# Altium schematic symbol library Battery_Management.SchLib: 122 symbols (part 2 of 2)
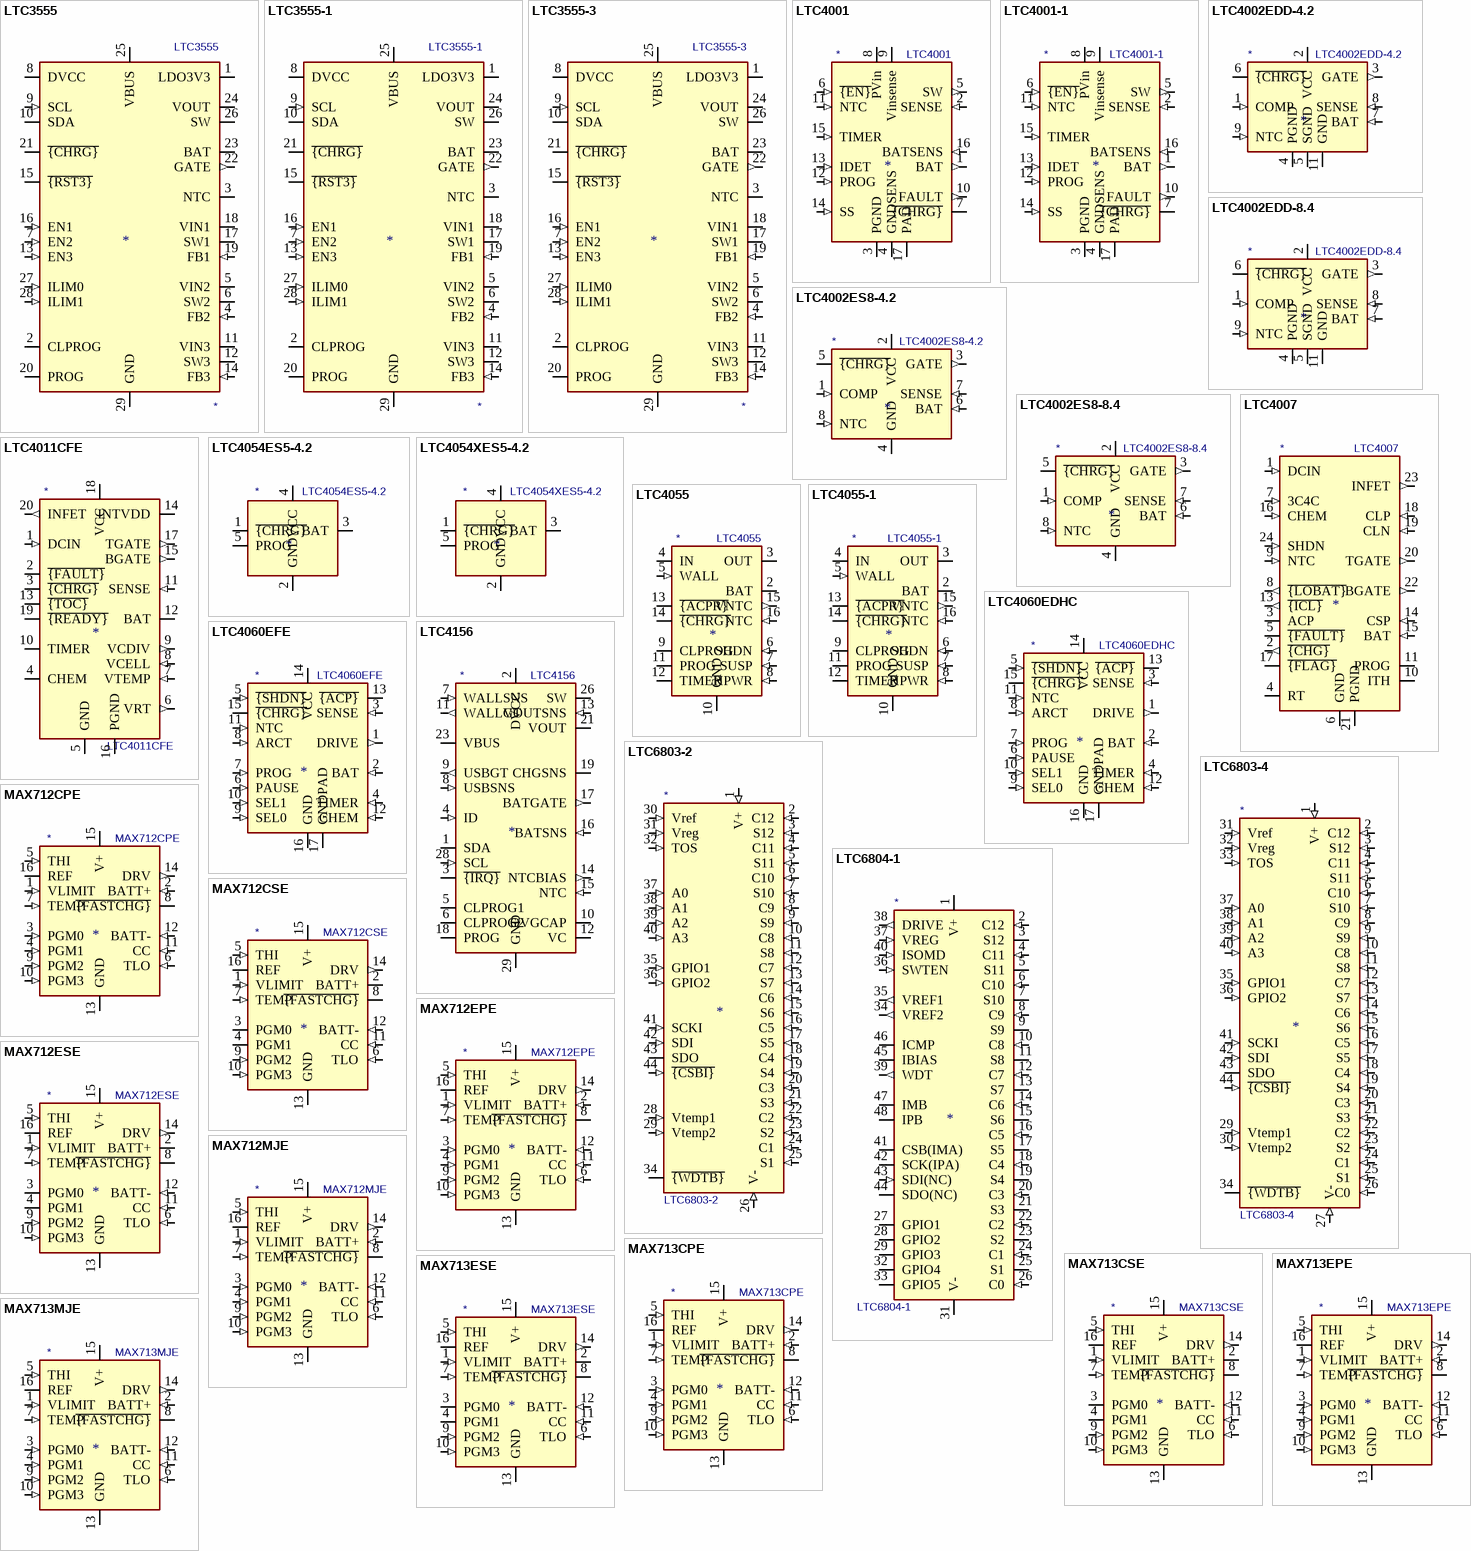
[diagram p5: symbols LTC3555 to MAX713MJE]

## LTC4060EFE
designator *  value LTC4060EFE
ki_keywords: Complete fast charging system for 2, 3 or 4 series NiMH or NiCd batteries, 0.4 to 2A, 4.5 to 10V VDD, -40 to +85 degree Celcisus, TSSOP-16; ki_fp_filters: TSSOP*EP*4.4x5mm*P0.65mm*; Footprint: Package_SO:TSSOP-16-1EP_4.4x5mm_P0.65mm; Supplier: https://www.analog.com/media/en/technical-documentation/data-sheets/405442xf.pdf; ki_description: Complete fast charging system for 2, 3 or 4 series NiMH or NiCd batteries, 0.4 to 2A, 4.5 to 10V VDD, -40 to +85 degree Celcisus, TSSOP-16
footprint TSSOP-16-1EP_4.4x5mm_P0.65mm
pins: 1 DRIVE (out), 2 BAT (in), 3 SENSE (in), 4 TIMER (in), 5 ~{{SHDN}} (in), 6 PAUSE (in), 7 PROG (in), 8 ARCT (in), 9 SEL0 (in), 10 SEL1 (in), 11 NTC (in), 12 CHEM (in), 13 ~{{ACP}} (oc), 14 VCC (power), 15 ~{{CHRG}} (oc), 16 GND (power), 17 GNDPAD (power)

## LTC4156
designator *  value LTC4156
ki_keywords: lifepo charger PMIC USB; ki_description: Dual-Input Power Manager / 3.5A LiFePO4 Battery Charger with I2C Control and USB OTG, QFN-28; ki_fp_filters: QFN*1EP*4x5mm*P0.5mm*; Footprint: Package_DFN_QFN:QFN-28-1EP_4x5mm_P0.5mm_EP2.65x3.65mm; Supplier: https://www.analog.com/media/en/technical-documentation/data-sheets/4156fa.pdf
footprint QFN-28-1EP_4x5mm_P0.5mm_EP2.65x3.65mm
pins: 1 SDA (io), 2 DVCC (power), 3 ~{{IRQ}} (oc), 4 ID (in), 5 CLPROG1, 6 CLPROG2, 7 WALLSNS (in), 8 USBSNS (in), 9 USBGT (out), 10 OVGCAP, 11 WALLGT (out), 12 VC, 13 VOUTSNS (in), 14 NTCBIAS (out), 15 NTC (in), 16 BATSNS (in), 17 BATGATE (out), 18 PROG, 19 CHGSNS, 20 CHGSNS hidden, 21 VOUT, 22 VOUT hidden, 23 VBUS, 24 VBUS hidden, 25 VBUS hidden, 26 SW, 27 SW hidden, 28 SCL (in), 29 GND (power)

## LTC6803-2
designator *  value LTC6803-2
ki_keywords: battery balance afe; ki_description: Multicell Battery Stack Monitor, 12-cell max, multi-chemistry, integrated balancing, stackable, serial interface; ki_fp_filters: SSOP*5.3x12.8mm*P0.5mm*; Footprint: Package_SO:SSOP-44_5.3x12.8mm_P0.5mm; Supplier: https://www.analog.com/media/en/technical-documentation/data-sheets/680324fa.pdf
footprint SSOP-44_5.3x12.8mm_P0.5mm
pins: 1 V+ (in), 2 C12 (in), 3 S12 (in), 4 C11 (in), 5 S11 (in), 6 C10 (in), 7 S10 (in), 8 C9 (in), 9 S9 (in), 10 C8 (in), 11 S8 (in), 12 C7 (in), 13 S7 (in), 14 C6 (in), 15 S6 (in), 16 C5 (in), 17 S5 (in), 18 C4 (in), 19 S4 (in), 20 C3 (in), 21 S3 (in), 22 C2 (in), 23 S2 (in), 24 C1 (in), 25 S1 (in), 26 V- (in), 27 NC (in) hidden, 28 Vtemp1 (in), 29 Vtemp2 (in), 30 Vref (in), 31 Vreg (in), 32 TOS (in), 33 NC (in) hidden, 34 ~{{WDTB}} (oc), 35 GPIO1 (in), 36 GPIO2 (in), 37 A0 (in), 38 A1 (in), 39 A2 (in), 40 A3 (in), 41 SCKI (in), 42 SDI (in), 43 SDO (oc), 44 ~{{CSBI}} (in)

## LTC6803-4
designator *  value LTC6803-4
ki_keywords: battery balance afe; ki_description: Multicell Battery Stack Monitor, 12-cell max, multi-chemistry, integrated balancing, stackable, serial interface; ki_fp_filters: SSOP*5.3x12.8mm*P0.5mm*; Footprint: Package_SO:SSOP-44_5.3x12.8mm_P0.5mm; Supplier: https://www.analog.com/media/en/technical-documentation/data-sheets/680324fa.pdf
footprint SSOP-44_5.3x12.8mm_P0.5mm
pins: 1 V+ (in), 2 C12 (in), 3 S12 (in), 4 C11 (in), 5 S11 (in), 6 C10 (in), 7 S10 (in), 8 C9 (in), 9 S9 (in), 10 C8 (in), 11 S8 (in), 12 C7 (in), 13 S7 (in), 14 C6 (in), 15 S6 (in), 16 C5 (in), 17 S5 (in), 18 C4 (in), 19 S4 (in), 20 C3 (in), 21 S3 (in), 22 C2 (in), 23 S2 (in), 24 C1 (in), 25 S1 (in), 26 C0 (in), 27 V- (in), 28 NC (in) hidden, 29 Vtemp1 (in), 30 Vtemp2 (in), 31 Vref (in), 32 Vreg (in), 33 TOS (in), 34 ~{{WDTB}} (oc), 35 GPIO1 (in), 36 GPIO2 (in), 37 A0 (in), 38 A1 (in), 39 A2 (in), 40 A3 (in), 41 SCKI (in), 42 SDI (in), 43 SDO (oc), 44 ~{{CSBI}} (in)

## LTC6804-1
designator *  value LTC6804-1
ki_keywords: battery balance afe; ki_description: Multicell Battery Stack Monitor, 12-cell max, multi-chemistry, integrated balancing, stackable, serial interface, SSOP-48; ki_fp_filters: SSOP*5.3x12.8mm*P0.5mm*; Footprint: Package_SO:SSOP-48_5.3x12.8mm_P0.5mm; Supplier: https://www.analog.com/media/en/technical-documentation/data-sheets/680412fc.pdf
footprint SSOP-48_5.3x12.8mm_P0.5mm
pins: 1 V+ (power), 2 C12 (in), 3 S12 (io), 4 C11 (in), 5 S11 (io), 6 C10 (in), 7 S10 (io), 8 C9 (in), 9 S9 (io), 10 C8 (in), 11 S8 (io), 12 C7 (in), 13 S7 (io), 14 C6 (in), 15 S6 (io), 16 C5 (in), 17 S5 (io), 18 C4 (in), 19 S4 (io), 20 C3 (in), 21 S3 (io), 22 C2 (in), 23 S2 (io), 24 C1 (in), 25 S1 (io), 26 C0 (in), 27 GPIO1 (io), 28 GPIO2 (io), 29 GPIO3 (io), 30 V- hidden, 31 V-, 32 GPIO4 (io), 33 GPIO5 (io), 34 VREF2 (out), 35 VREF1 (out), 36 SWTEN (in), 37 VREG (in), 38 DRIVE (out), 39 WDT (out), 40 ISOMD (in), 41 CSB(IMA) (io), 42 SCK(IPA) (io), 43 SDI(NC) (in), 44 SDO(NC) (oc), 45 IBIAS, 46 ICMP, 47 IMB (io), 48 IPB (io)

## MAX712CPE
designator *  value MAX712CPE
ki_keywords: Fast-charge Nickel Metal Hydride (NiMH) from a DC source, 0 to +70 Degree Celsius, PDIP-16; ki_fp_filters: DIP*W7.62mm*; Footprint: Package_DIP:DIP-16_W7.62mm; Supplier: https://datasheets.maximintegrated.com/en/ds/MAX712-MAX713.pdf; ki_description: Fast-charge Nickel Metal Hydride (NiMH) from a DC source, 0 to +70 Degree Celsius, PDIP-16
footprint DIP-16_W7.62mm
pins: 1 VLIMIT (in), 2 BATT+ (in), 3 PGM0 (in), 4 PGM1 (in), 5 THI (in), 6 TLO (in), 7 TEMP (in), 8 ~{{FASTCHG}} (oc), 9 PGM2 (in), 10 PGM3 (in), 11 CC (in), 12 BATT- (in), 13 GND (power), 14 DRV (out), 15 V+ (power), 16 REF (power)

## MAX712CSE
designator *  value MAX712CSE
ki_keywords: Fast-charge Nickel Metal Hydride (NiMH) from a DC source, 0 to +70 Degree Celsius, SOIC-16; ki_fp_filters: SOIC*3.9x9.9mm*P1.27mm*; Footprint: Package_SO:SOIC-16_3.9x9.9mm_P1.27mm; Supplier: https://datasheets.maximintegrated.com/en/ds/MAX712-MAX713.pdf; ki_description: Fast-charge Nickel Metal Hydride (NiMH) from a DC source, 0 to +70 Degree Celsius, SOIC-16
footprint SOIC-16_3.9x9.9mm_P1.27mm
pins: 1 VLIMIT (in), 2 BATT+ (power), 3 PGM0 (power), 4 PGM1 (power), 5 THI (in), 6 TLO (in), 7 TEMP (in), 8 ~{{FASTCHG}} (oc), 9 PGM2 (in), 10 PGM3 (in), 11 CC (in), 12 BATT- (in), 13 GND (power), 14 DRV (out), 15 V+ (power), 16 REF (power)

## MAX712EPE
designator *  value MAX712EPE
ki_keywords: Fast-charge Nickel Metal Hydride (NiMH) from a DC source, -40 to +85 Degree Celsius, PDIP-16; ki_fp_filters: DIP*W7.62mm*; Footprint: Package_DIP:DIP-16_W7.62mm; Supplier: https://datasheets.maximintegrated.com/en/ds/MAX712-MAX713.pdf; ki_description: Fast-charge Nickel Metal Hydride (NiMH) from a DC source, -40 to +85 Degree Celsius, PDIP-16
footprint DIP-16_W7.62mm
pins: 1 VLIMIT (in), 2 BATT+ (in), 3 PGM0 (in), 4 PGM1 (in), 5 THI (in), 6 TLO (in), 7 TEMP (in), 8 ~{{FASTCHG}} (oc), 9 PGM2 (in), 10 PGM3 (in), 11 CC (in), 12 BATT- (in), 13 GND (power), 14 DRV (out), 15 V+ (power), 16 REF (power)

## MAX712ESE
designator *  value MAX712ESE
ki_keywords: Fast-charge Nickel Metal Hydride (NiMH) from a DC source, -40 to +85 Degree Celsius, SOIC-16; ki_fp_filters: SOIC*3.9x9.9mm*P1.27mm*; Footprint: Package_SO:SOIC-16_3.9x9.9mm_P1.27mm; Supplier: https://datasheets.maximintegrated.com/en/ds/MAX712-MAX713.pdf; ki_description: Fast-charge Nickel Metal Hydride (NiMH) from a DC source, -40 to +85 Degree Celsius, SOIC-16
footprint SOIC-16_3.9x9.9mm_P1.27mm
pins: 1 VLIMIT (in), 2 BATT+ (power), 3 PGM0 (power), 4 PGM1 (power), 5 THI (in), 6 TLO (in), 7 TEMP (in), 8 ~{{FASTCHG}} (oc), 9 PGM2 (in), 10 PGM3 (in), 11 CC (in), 12 BATT- (in), 13 GND (power), 14 DRV (out), 15 V+ (power), 16 REF (power)

## MAX712MJE
designator *  value MAX712MJE
ki_keywords: Fast-charge Nickel Metal Hydride (NiMH) from a DC source, ceramic, -55 to +125 Degree Celsius, PDIP-16; ki_fp_filters: DIP*W7.62mm*; Footprint: Package_DIP:DIP-16_W7.62mm; Supplier: https://datasheets.maximintegrated.com/en/ds/MAX712-MAX713.pdf; ki_description: Fast-charge Nickel Metal Hydride (NiMH) from a DC source, ceramic, -55 to +125 Degree Celsius, PDIP-16
footprint DIP-16_W7.62mm
pins: 1 VLIMIT (in), 2 BATT+ (in), 3 PGM0 (in), 4 PGM1 (in), 5 THI (in), 6 TLO (in), 7 TEMP (in), 8 ~{{FASTCHG}} (oc), 9 PGM2 (in), 10 PGM3 (in), 11 CC (in), 12 BATT- (in), 13 GND (power), 14 DRV (out), 15 V+ (power), 16 REF (power)

## MAX713CPE
designator *  value MAX713CPE
ki_keywords: Fast-charge Nickel Cadmium (NiCd) from a DC source, 0 to +70 Degree Celsius, PDIP-16; ki_fp_filters: DIP*W7.62mm*; Footprint: Package_DIP:DIP-16_W7.62mm; Supplier: https://datasheets.maximintegrated.com/en/ds/MAX712-MAX713.pdf; ki_description: Fast-charge Nickel Cadmium (NiCd) from a DC source, 0 to +70 Degree Celsius, PDIP-16
footprint DIP-16_W7.62mm
pins: 1 VLIMIT (in), 2 BATT+ (in), 3 PGM0 (in), 4 PGM1 (in), 5 THI (in), 6 TLO (in), 7 TEMP (in), 8 ~{{FASTCHG}} (oc), 9 PGM2 (in), 10 PGM3 (in), 11 CC (in), 12 BATT- (in), 13 GND (power), 14 DRV (out), 15 V+ (power), 16 REF (power)

## MAX713CSE
designator *  value MAX713CSE
ki_keywords: Fast-charge Nickel Cadmium (NiCd) from a DC source, 0 to +70 Degree Celsius, SOIC-16; ki_fp_filters: SOIC*3.9x9.9mm*P1.27mm*; Footprint: Package_SO:SOIC-16_3.9x9.9mm_P1.27mm; Supplier: https://datasheets.maximintegrated.com/en/ds/MAX712-MAX713.pdf; ki_description: Fast-charge Nickel Cadmium (NiCd) from a DC source, 0 to +70 Degree Celsius, SOIC-16
footprint SOIC-16_3.9x9.9mm_P1.27mm
pins: 1 VLIMIT (in), 2 BATT+ (power), 3 PGM0 (power), 4 PGM1 (power), 5 THI (in), 6 TLO (in), 7 TEMP (in), 8 ~{{FASTCHG}} (oc), 9 PGM2 (in), 10 PGM3 (in), 11 CC (in), 12 BATT- (in), 13 GND (power), 14 DRV (out), 15 V+ (power), 16 REF (power)

## MAX713EPE
designator *  value MAX713EPE
ki_keywords: Fast-charge Nickel Cadmium (NiCd) from a DC source, -40 to +85 Degree Celsius, PDIP-16; ki_fp_filters: DIP*W7.62mm*; Footprint: Package_DIP:DIP-16_W7.62mm; Supplier: https://datasheets.maximintegrated.com/en/ds/MAX712-MAX713.pdf; ki_description: Fast-charge Nickel Cadmium (NiCd) from a DC source, -40 to +85 Degree Celsius, PDIP-16
footprint DIP-16_W7.62mm
pins: 1 VLIMIT (in), 2 BATT+ (in), 3 PGM0 (in), 4 PGM1 (in), 5 THI (in), 6 TLO (in), 7 TEMP (in), 8 ~{{FASTCHG}} (oc), 9 PGM2 (in), 10 PGM3 (in), 11 CC (in), 12 BATT- (in), 13 GND (power), 14 DRV (out), 15 V+ (power), 16 REF (power)

## MAX713ESE
designator *  value MAX713ESE
ki_keywords: Fast-charge Nickel Cadmium (NiCd) from a DC source, -40 to +85 Degree Celsius, SOIC-16; ki_fp_filters: SOIC*3.9x9.9mm*P1.27mm*; Footprint: Package_SO:SOIC-16_3.9x9.9mm_P1.27mm; Supplier: https://datasheets.maximintegrated.com/en/ds/MAX712-MAX713.pdf; ki_description: Fast-charge Nickel Cadmium (NiCd) from a DC source, -40 to +85 Degree Celsius, SOIC-16
footprint SOIC-16_3.9x9.9mm_P1.27mm
pins: 1 VLIMIT (in), 2 BATT+ (power), 3 PGM0 (power), 4 PGM1 (power), 5 THI (in), 6 TLO (in), 7 TEMP (in), 8 ~{{FASTCHG}} (oc), 9 PGM2 (in), 10 PGM3 (in), 11 CC (in), 12 BATT- (in), 13 GND (power), 14 DRV (out), 15 V+ (power), 16 REF (power)

## MAX713MJE
designator *  value MAX713MJE
ki_keywords: Fast-charge Nickel Cadmium (NiCd) from a DC source, ceramic, -55 to +125 Degree Celsius, PDIP-16; ki_fp_filters: DIP*W7.62mm*; Footprint: Package_DIP:DIP-16_W7.62mm; Supplier: https://datasheets.maximintegrated.com/en/ds/MAX712-MAX713.pdf; ki_description: Fast-charge Nickel Cadmium (NiCd) from a DC source, ceramic, -55 to +125 Degree Celsius, PDIP-16
footprint DIP-16_W7.62mm
pins: 1 VLIMIT (in), 2 BATT+ (in), 3 PGM0 (in), 4 PGM1 (in), 5 THI (in), 6 TLO (in), 7 TEMP (in), 8 ~{{FASTCHG}} (oc), 9 PGM2 (in), 10 PGM3 (in), 11 CC (in), 12 BATT- (in), 13 GND (power), 14 DRV (out), 15 V+ (power), 16 REF (power)

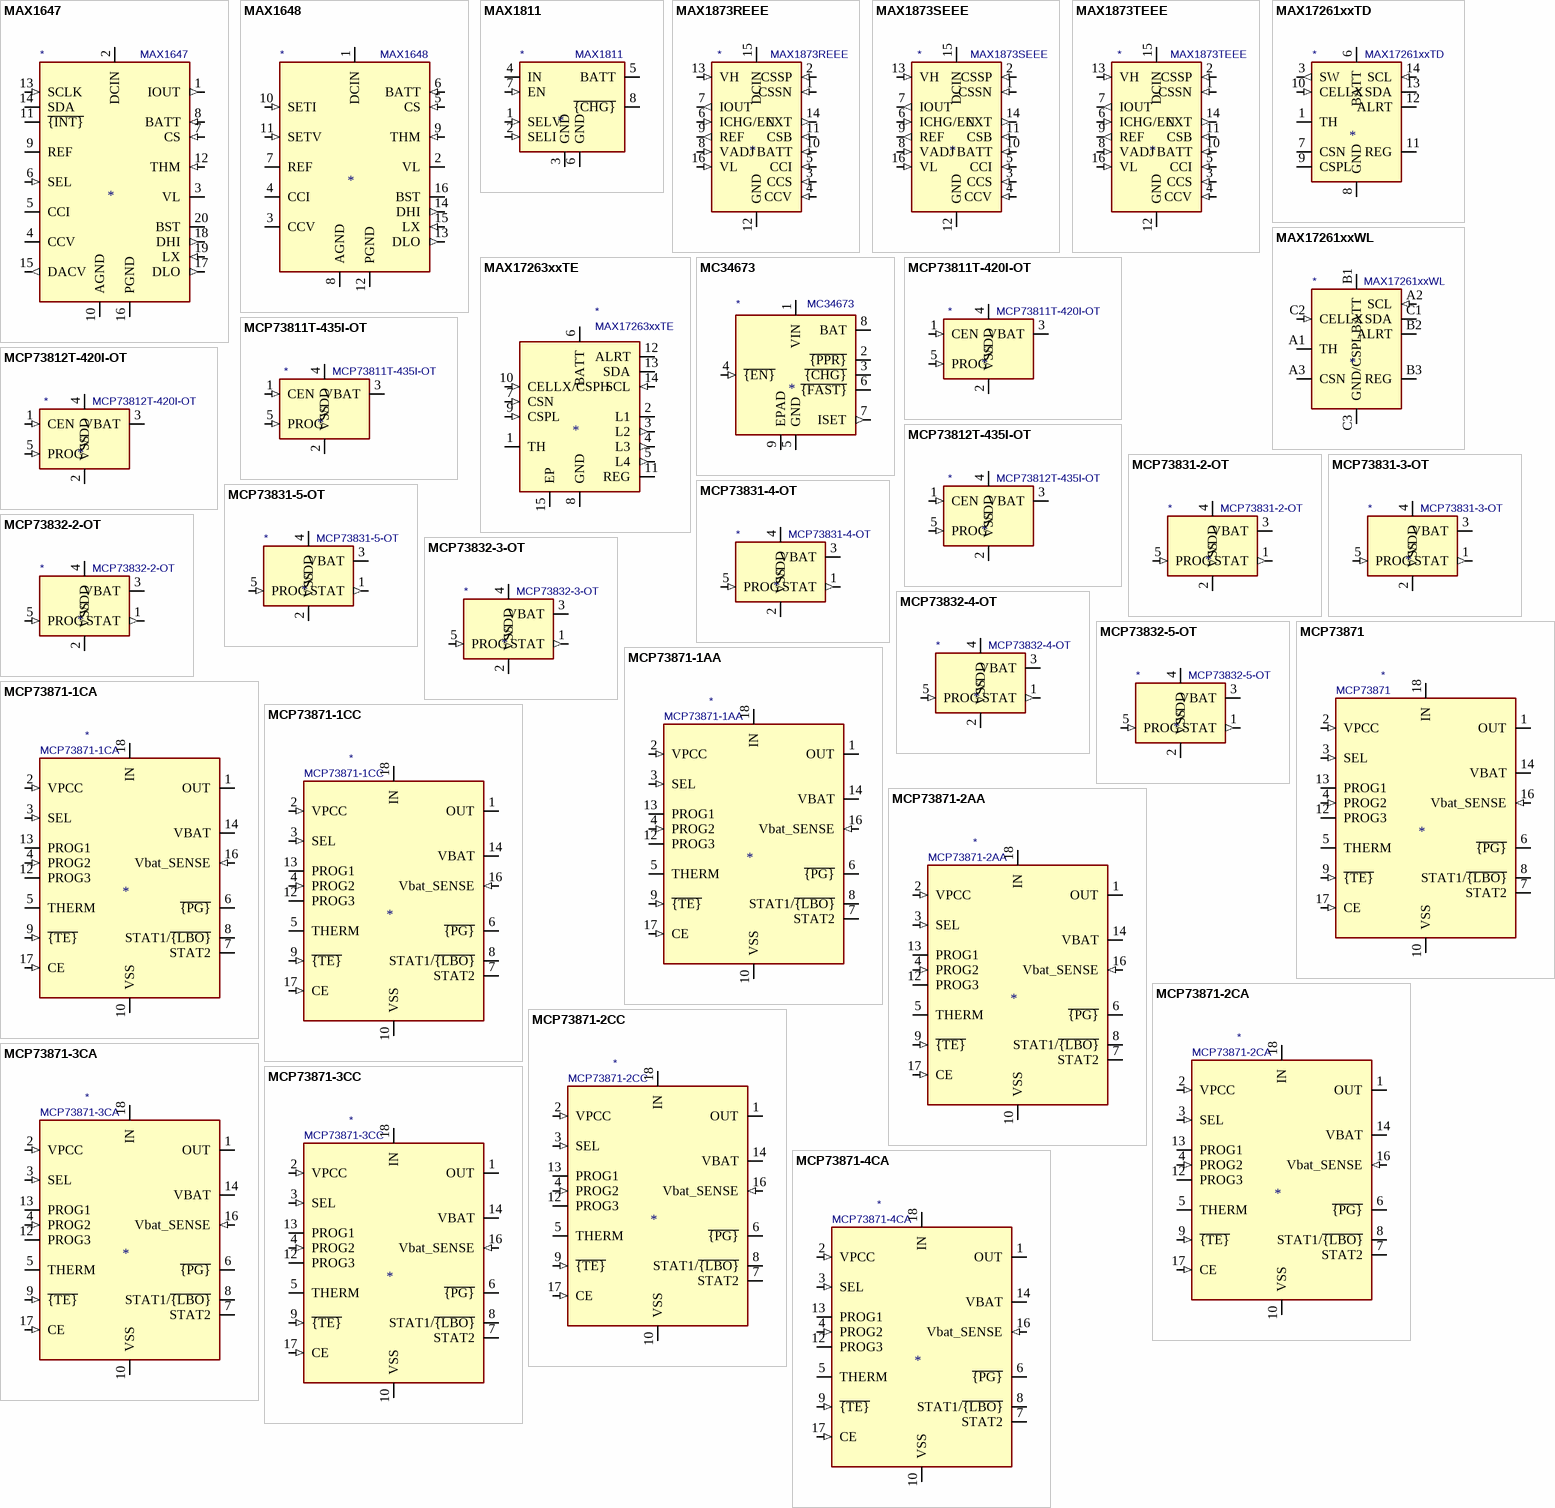
[diagram p3: symbols MAX1647 to MCP73871-4CA]

## MAX1647
designator *  value MAX1647
ki_keywords: battery charger; ki_description: Smart Battery Charger, 18V battery, 28V input, SMBus serial interface; ki_fp_filters: SSOP*5.3x7.2mm*P0.65mm*; Footprint: Package_SO:SSOP-20_5.3x7.2mm_P0.65mm; Supplier: https://datasheets.maximintegrated.com/en/ds/MAX1647-MAX1648.pdf
footprint SSOP-20_5.3x7.2mm_P0.65mm
pins: 1 IOUT (out), 2 DCIN (power), 3 VL (power), 4 CCV, 5 CCI, 6 SEL (in), 7 CS (in), 8 BATT (in), 9 REF (io), 10 AGND (power), 11 ~{{INT}} (oc), 12 THM (in), 13 SCLK (in), 14 SDA (io), 15 DACV (out), 16 PGND (power), 17 DLO (out), 18 DHI (out), 19 LX (in), 20 BST (power)

## MAX1648
designator *  value MAX1648
ki_keywords: battery charger; ki_description: Smart Battery Charger, 18V battery, 28V input, standalone; ki_fp_filters: SOIC*3.9x9.9mm*P1.27mm*; Footprint: Package_SO:SOIC-16_3.9x9.9mm_P1.27mm; Supplier: https://datasheets.maximintegrated.com/en/ds/MAX1647-MAX1648.pdf
footprint SOIC-16_3.9x9.9mm_P1.27mm
pins: 1 DCIN (power), 2 VL (power), 3 CCV, 4 CCI, 5 CS (in), 6 BATT (in), 7 REF (io), 8 AGND (power), 9 THM (in), 10 SETI (in), 11 SETV (in), 12 PGND (power), 13 DLO (out), 14 DHI (out), 15 LX (in), 16 BST (power)

## MAX1811
designator *  value MAX1811
ki_keywords: USB Battery Charger; ki_description: USB Powered Li+ Charger, 4.1V/4.2V battery, 5V input, 0.1/0.5A charging current; ki_fp_filters: SOIC*; Footprint: Package_SO:SOIC-8_3.9x4.9mm_P1.27mm; Supplier: https://datasheets.maximintegrated.com/en/ds/MAX1811.pdf
footprint SOIC-8_3.9x4.9mm_P1.27mm
pins: 1 SELV (in), 2 SELI (in), 3 GND (power), 4 IN (power), 5 BATT (power), 6 GND (power), 7 EN (in), 8 ~{{CHG}} (oc)

## MAX1873REEE
designator *  value MAX1873REEE
ki_keywords: Charger for 2 lithium-ion (Li+), 5/6 NickelCadium (NiCD) cells or 5/6 NickelMetalHydride (NiMH), 9 to 28V VDD, -40 to +85 degree Celsius, QSOP-16; ki_fp_filters: QSOP*3.9x4.9mm*P0.635mm*; Footprint: Package_SO:QSOP-16_3.9x4.9mm_P0.635mm; Supplier: https://datasheets.maximintegrated.com/en/ds/MAX1873.pdf; ki_description: Charger for 2 lithium-ion (Li+), 5/6 NickelCadium (NiCD) cells or 5/6 NickelMetalHydride (NiMH), 9 to 28V VDD, -40 to +85 degree Celsius, QSOP-16
footprint QSOP-16_3.9x4.9mm_P0.635mm
pins: 1 CSSN (in), 2 CSSP (in), 3 CCS (in), 4 CCV (in), 5 CCI (in), 6 ICHG/EN (in), 7 IOUT (out), 8 VADJ (in), 9 REF (out), 10 BATT (in), 11 CSB (in), 12 GND (power), 13 VH (in), 14 EXT (out), 15 DCIN (power), 16 VL (in)

## MAX1873SEEE
designator *  value MAX1873SEEE
ki_keywords: Charger for 3 lithium-ion (Li+), 7/9 NickelCadium (NiCD) cells or 7/9 NickelMetalHydride (NiMH), 9 to 28V VDD, -40 to +85 degree Celsius, QSOP-16; ki_fp_filters: QSOP*3.9x4.9mm*P0.635mm*; Footprint: Package_SO:QSOP-16_3.9x4.9mm_P0.635mm; Supplier: https://datasheets.maximintegrated.com/en/ds/MAX1873.pdf; ki_description: Charger for 3 lithium-ion (Li+), 7/9 NickelCadium (NiCD) cells or 7/9 NickelMetalHydride (NiMH), 9 to 28V VDD, -40 to +85 degree Celsius, QSOP-16
footprint QSOP-16_3.9x4.9mm_P0.635mm
pins: 1 CSSN (in), 2 CSSP (in), 3 CCS (in), 4 CCV (in), 5 CCI (in), 6 ICHG/EN (in), 7 IOUT (out), 8 VADJ (in), 9 REF (out), 10 BATT (in), 11 CSB (in), 12 GND (power), 13 VH (in), 14 EXT (out), 15 DCIN (power), 16 VL (in)

## MAX1873TEEE
designator *  value MAX1873TEEE
ki_keywords: Charger for 4 lithium-ion (Li+), 10 NickelCadium (NiCD) cells or 10 NickelMetalHydride (NiMH), 9 to 28V VDD, -40 to +85 degree Celsius, QSOP-16; ki_fp_filters: QSOP*3.9x4.9mm*P0.635mm*; Footprint: Package_SO:QSOP-16_3.9x4.9mm_P0.635mm; Supplier: https://datasheets.maximintegrated.com/en/ds/MAX1873.pdf; ki_description: Charger for 4 lithium-ion (Li+), 10 NickelCadium (NiCD) cells or 10 NickelMetalHydride (NiMH), 9 to 28V VDD, -40 to +85 degree Celsius, QSOP-16
footprint QSOP-16_3.9x4.9mm_P0.635mm
pins: 1 CSSN (in), 2 CSSP (in), 3 CCS (in), 4 CCV (in), 5 CCI (in), 6 ICHG/EN (in), 7 IOUT (out), 8 VADJ (in), 9 REF (out), 10 BATT (in), 11 CSB (in), 12 GND (power), 13 VH (in), 14 EXT (out), 15 DCIN (power), 16 VL (in)

## MAX17261xxTD
designator *  value MAX17261xxTD
ki_keywords: Charge pump, battery; ki_description: 5.1μA Multi-Cell Fuel Gauge with ModelGauge m5 EZ, TDFN-14; ki_fp_filters: TDFN*1EP*3x3mm*P0.4mm*; Footprint: Package_DFN_QFN:TDFN-14-1EP_3x3mm_P0.4mm_EP1.78x2.35mm; Supplier: https://datasheets.maximintegrated.com/en/ds/MAX17261.pdf
footprint TDFN-14-1EP_3x3mm_P0.4mm_EP1.78x2.35mm
pins: 1 TH, 2 NC (in) hidden, 3 SW (out), 4 NC (in) hidden, 5 NC (in) hidden, 6 BATT (power), 7 CSN, 8 GND (power), 9 CSPL, 10 CELLX (in), 11 REG (power), 12 ALRT (oc), 13 SDA (io), 14 SCL (in), 15 GND hidden

## MAX17261xxWL
designator *  value MAX17261xxWL
ki_keywords: Charge pump, battery; ki_description: 5.1μA Multi-Cell Fuel Gauge with ModelGauge m5 EZ, WLP-9; ki_fp_filters: Maxim*WLP*1.595x1.415*Layout3x3*P0.4mm*; Footprint: Package_BGA:Maxim_WLP-9_1.595x1.415_Layout3x3_P0.4mm_Ball0.27mm_Pad0.25mm_NSMD; Supplier: https://datasheets.maximintegrated.com/en/ds/MAX17261.pdf
footprint Maxim_WLP-9_1.595x1.415_Layout3x3_P0.4mm_Ball0.27mm_Pad0.25mm_NSMD
pins: A1 TH, A2 SCL (in), A3 CSN, B1 BATT (power), B2 ALRT (oc), B3 REG (power), C1 SDA (io), C2 CELLX (in), C3 GND/CSPL (power)

## MAX17263xxTE
designator *  value MAX17263xxTE
ki_keywords: fuel-gauge; ki_description: Single/Multi-Cell Fuel Gauge, ModelGauge m5 EZ, Integrated LED Control, TDFN-14; ki_fp_filters: DFN*1EP*3x3mm*P0.4mm*; Footprint: Package_DFN_QFN:DFN-14-1EP_3x3mm_P0.4mm_EP1.78x2.35mm; Supplier: https://datasheets.maximintegrated.com/en/ds/MAX17263.pdf
footprint DFN-14-1EP_3x3mm_P0.4mm_EP1.78x2.35mm
pins: 1 TH, 2 L1 (io), 3 L2 (out), 4 L3 (out), 5 L4 (out), 6 BATT (power), 7 CSN (in), 8 GND (power), 9 CSPL (in), 10 CELLX/CSPH (in), 11 REG (power), 12 ALRT (oc), 13 SDA (io), 14 SCL (in), 15 EP

## MC34673
designator *  value MC34673
ki_keywords: Lithium-Ion Battery Charger; ki_description: High Input Voltage 1.2A Charger for Single-cell Li-Ion Batteries, UDFN-8; ki_fp_filters: DFN*3x2mm*P0.5mm*; Footprint: Package_DFN_QFN:DFN-8-1EP_3x2mm_P0.5mm_EP1.75x1.45mm; Supplier: http://www.nxp.com/docs/en/data-sheet/MC34673.pdf
footprint DFN-8-1EP_3x2mm_P0.5mm_EP1.75x1.45mm
pins: 1 VIN (power), 2 ~{{PPR}} (oc), 3 ~{{CHG}} (oc), 4 ~{{EN}} (in), 5 GND (power), 6 ~{{FAST}} (oc), 7 ISET (out), 8 BAT (power), 9 EPAD (power)

## MCP73811T-420I-OT
designator *  value MCP73811T-420I-OT
ki_keywords: Lithium-Ion Battery Charger; ki_description: Simple, Miniature Single-Cell, Fully Integrated Li-Ion / Li-Polymer Charge Management Controllers, 85mA/450mA, 4.2V, SOT23-5; ki_fp_filters: SOT?23*; Footprint: Package_TO_SOT_SMD:SOT-23-5; Supplier: http://ww1.microchip.com/downloads/en/DeviceDoc/22036b.pdf
footprint SOT-23-5
pins: 1 CEN (in), 2 VSS (power), 3 VBAT (power), 4 VDD (power), 5 PROG (in)

## MCP73811T-435I-OT
designator *  value MCP73811T-435I-OT
ki_keywords: Lithium-Ion Battery Charger; ki_description: Simple, Miniature Single-Cell, Fully Integrated Li-Ion / Li-Polymer Charge Management Controllers, 85mA/450mA, 4.35V, SOT23-5; ki_fp_filters: SOT?23*; Footprint: Package_TO_SOT_SMD:SOT-23-5; Supplier: http://ww1.microchip.com/downloads/en/DeviceDoc/22036b.pdf
footprint SOT-23-5
pins: 1 CEN (in), 2 VSS (power), 3 VBAT (power), 4 VDD (power), 5 PROG (in)

## MCP73812T-420I-OT
designator *  value MCP73812T-420I-OT
ki_keywords: Lithium-Ion Battery Charger; ki_description: Simple, Miniature Single-Cell, Fully Integrated Li-Ion / Li-Polymer Charge Management Controllers, 50mA-500mA, 4.2V, SOT23-5; ki_fp_filters: SOT?23*; Footprint: Package_TO_SOT_SMD:SOT-23-5; Supplier: http://ww1.microchip.com/downloads/en/DeviceDoc/22036b.pdf
footprint SOT-23-5
pins: 1 CEN (in), 2 VSS (power), 3 VBAT (power), 4 VDD (power), 5 PROG (in)

## MCP73812T-435I-OT
designator *  value MCP73812T-435I-OT
ki_keywords: Lithium-Ion Battery Charger; ki_description: Simple, Miniature Single-Cell, Fully Integrated Li-Ion / Li-Polymer Charge Management Controllers, 50mA-500mA, 4.35V, SOT23-5; ki_fp_filters: SOT?23*; Footprint: Package_TO_SOT_SMD:SOT-23-5; Supplier: http://ww1.microchip.com/downloads/en/DeviceDoc/22036b.pdf
footprint SOT-23-5
pins: 1 CEN (in), 2 VSS (power), 3 VBAT (power), 4 VDD (power), 5 PROG (in)

## MCP73831-2-OT
designator *  value MCP73831-2-OT
ki_keywords: battery charger lithium; ki_description: Single cell, Li-Ion/Li-Po charge management controller, 4.20V, Tri-State Status Output, in SOT23-5 package; ki_fp_filters: SOT?23*; Footprint: Package_TO_SOT_SMD:SOT-23-5; Supplier: http://ww1.microchip.com/downloads/en/DeviceDoc/20001984g.pdf
footprint SOT-23-5
pins: 1 STAT (out), 2 VSS (power), 3 VBAT (power), 4 VDD (power), 5 PROG (in)

## MCP73831-3-OT
designator *  value MCP73831-3-OT
ki_keywords: battery charger lithium; ki_description: Single cell, Li-Ion/Li-Po charge management controller, 4.35V, Tri-State Status Output, in SOT23-5 package; ki_fp_filters: SOT?23*; Footprint: Package_TO_SOT_SMD:SOT-23-5; Supplier: http://ww1.microchip.com/downloads/en/DeviceDoc/20001984g.pdf
footprint SOT-23-5
pins: 1 STAT (out), 2 VSS (power), 3 VBAT (power), 4 VDD (power), 5 PROG (in)

## MCP73831-4-OT
designator *  value MCP73831-4-OT
ki_keywords: battery charger lithium; ki_description: Single cell, Li-Ion/Li-Po charge management controller, 4.40V, Tri-State Status Output, in SOT23-5 package; ki_fp_filters: SOT?23*; Footprint: Package_TO_SOT_SMD:SOT-23-5; Supplier: http://ww1.microchip.com/downloads/en/DeviceDoc/20001984g.pdf
footprint SOT-23-5
pins: 1 STAT (out), 2 VSS (power), 3 VBAT (power), 4 VDD (power), 5 PROG (in)

## MCP73831-5-OT
designator *  value MCP73831-5-OT
ki_keywords: battery charger lithium; ki_description: Single cell, Li-Ion/Li-Po charge management controller, 4.50V, Tri-State Status Output, in SOT23-5 package; ki_fp_filters: SOT?23*; Footprint: Package_TO_SOT_SMD:SOT-23-5; Supplier: http://ww1.microchip.com/downloads/en/DeviceDoc/20001984g.pdf
footprint SOT-23-5
pins: 1 STAT (out), 2 VSS (power), 3 VBAT (power), 4 VDD (power), 5 PROG (in)

## MCP73832-2-OT
designator *  value MCP73832-2-OT
ki_keywords: battery charger lithium; ki_description: Single cell, Li-Ion/Li-Po charge management controller, 4.20V, Open-Drain Status Output, in SOT23-5 package; ki_fp_filters: SOT?23*; Footprint: Package_TO_SOT_SMD:SOT-23-5; Supplier: http://ww1.microchip.com/downloads/en/DeviceDoc/20001984g.pdf
footprint SOT-23-5
pins: 1 STAT (out), 2 VSS (power), 3 VBAT (power), 4 VDD (power), 5 PROG (in)

## MCP73832-3-OT
designator *  value MCP73832-3-OT
ki_keywords: battery charger lithium; ki_description: Single cell, Li-Ion/Li-Po charge management controller, 4.35V, Open-Drain Status Output, in SOT23-5 package; ki_fp_filters: SOT?23*; Footprint: Package_TO_SOT_SMD:SOT-23-5; Supplier: http://ww1.microchip.com/downloads/en/DeviceDoc/20001984g.pdf
footprint SOT-23-5
pins: 1 STAT (out), 2 VSS (power), 3 VBAT (power), 4 VDD (power), 5 PROG (in)

## MCP73832-4-OT
designator *  value MCP73832-4-OT
ki_keywords: battery charger lithium; ki_description: Single cell, Li-Ion/Li-Po charge management controller, 4.40V, Open-Drain Status Output, in SOT23-5 package; ki_fp_filters: SOT?23*; Footprint: Package_TO_SOT_SMD:SOT-23-5; Supplier: http://ww1.microchip.com/downloads/en/DeviceDoc/20001984g.pdf
footprint SOT-23-5
pins: 1 STAT (out), 2 VSS (power), 3 VBAT (power), 4 VDD (power), 5 PROG (in)

## MCP73832-5-OT
designator *  value MCP73832-5-OT
ki_keywords: battery charger lithium; ki_description: Single cell, Li-Ion/Li-Po charge management controller, 4.50V, Open-Drain Status Output, in SOT23-5 package; ki_fp_filters: SOT?23*; Footprint: Package_TO_SOT_SMD:SOT-23-5; Supplier: http://ww1.microchip.com/downloads/en/DeviceDoc/20001984g.pdf
footprint SOT-23-5
pins: 1 STAT (out), 2 VSS (power), 3 VBAT (power), 4 VDD (power), 5 PROG (in)

## MCP73871
designator *  value MCP73871
ki_keywords: battery charger lithium; ki_description: Single cell, Li-Ion/Li-Po charge management controller; ki_fp_filters: QFN*4x4mm*P0.5mm*; Footprint: Package_DFN_QFN:QFN-20-1EP_4x4mm_P0.5mm_EP2.5x2.5mm; Supplier: http://www.mouser.com/ds/2/268/22090a-52174.pdf
footprint QFN-20-1EP_4x4mm_P0.5mm_EP2.5x2.5mm
pins: 1 OUT (power), 2 VPCC (in), 3 SEL (in), 4 PROG2 (in), 5 THERM (io), 6 ~{{PG}} (oc), 7 STAT2 (oc), 8 STAT1/~{{LBO}} (oc), 9 ~{{TE}} (in), 10 VSS (power), 11 VSS hidden, 12 PROG3 (io), 13 PROG1 (io), 14 VBAT (power), 15 VBAT hidden, 16 Vbat_SENSE (in), 17 CE (in), 18 IN (power), 19 IN hidden, 20 OUT hidden, 21 VSS hidden

## MCP73871-1AA
designator *  value MCP73871-1AA
ki_keywords: battery charger lithium; ki_description: Single cell, Li-Ion/Li-Po charge management controller, 4.10V; ki_fp_filters: QFN*4x4mm*P0.5mm*; Footprint: Package_DFN_QFN:QFN-20-1EP_4x4mm_P0.5mm_EP2.5x2.5mm; Supplier: http://www.mouser.com/ds/2/268/22090a-52174.pdf
footprint QFN-20-1EP_4x4mm_P0.5mm_EP2.5x2.5mm
pins: 1 OUT (power), 2 VPCC (in), 3 SEL (in), 4 PROG2 (in), 5 THERM (io), 6 ~{{PG}} (oc), 7 STAT2 (oc), 8 STAT1/~{{LBO}} (oc), 9 ~{{TE}} (in), 10 VSS (power), 11 VSS hidden, 12 PROG3 (io), 13 PROG1 (io), 14 VBAT (power), 15 VBAT hidden, 16 Vbat_SENSE (in), 17 CE (in), 18 IN (power), 19 IN hidden, 20 OUT hidden, 21 VSS hidden

## MCP73871-1CA
designator *  value MCP73871-1CA
ki_keywords: battery charger lithium; ki_description: Single cell, Li-Ion/Li-Po charge management controller, 4.10V, 6h safety timer; ki_fp_filters: QFN*4x4mm*P0.5mm*; Footprint: Package_DFN_QFN:QFN-20-1EP_4x4mm_P0.5mm_EP2.5x2.5mm; Supplier: http://www.mouser.com/ds/2/268/22090a-52174.pdf
footprint QFN-20-1EP_4x4mm_P0.5mm_EP2.5x2.5mm
pins: 1 OUT (power), 2 VPCC (in), 3 SEL (in), 4 PROG2 (in), 5 THERM (io), 6 ~{{PG}} (oc), 7 STAT2 (oc), 8 STAT1/~{{LBO}} (oc), 9 ~{{TE}} (in), 10 VSS (power), 11 VSS hidden, 12 PROG3 (io), 13 PROG1 (io), 14 VBAT (power), 15 VBAT hidden, 16 Vbat_SENSE (in), 17 CE (in), 18 IN (power), 19 IN hidden, 20 OUT hidden, 21 VSS hidden

## MCP73871-1CC
designator *  value MCP73871-1CC
ki_keywords: battery charger lithium; ki_description: Single cell, Li-Ion/Li-Po charge management controller, 4.10V, 6h safety timer, 3.1V LBO threshold; ki_fp_filters: QFN*4x4mm*P0.5mm*; Footprint: Package_DFN_QFN:QFN-20-1EP_4x4mm_P0.5mm_EP2.5x2.5mm; Supplier: http://www.mouser.com/ds/2/268/22090a-52174.pdf
footprint QFN-20-1EP_4x4mm_P0.5mm_EP2.5x2.5mm
pins: 1 OUT (power), 2 VPCC (in), 3 SEL (in), 4 PROG2 (in), 5 THERM (io), 6 ~{{PG}} (oc), 7 STAT2 (oc), 8 STAT1/~{{LBO}} (oc), 9 ~{{TE}} (in), 10 VSS (power), 11 VSS hidden, 12 PROG3 (io), 13 PROG1 (io), 14 VBAT (power), 15 VBAT hidden, 16 Vbat_SENSE (in), 17 CE (in), 18 IN (power), 19 IN hidden, 20 OUT hidden, 21 VSS hidden

## MCP73871-2AA
designator *  value MCP73871-2AA
ki_keywords: battery charger lithium; ki_description: Single cell, Li-Ion/Li-Po charge management controller, 4.20V; ki_fp_filters: QFN*4x4mm*P0.5mm*; Footprint: Package_DFN_QFN:QFN-20-1EP_4x4mm_P0.5mm_EP2.5x2.5mm; Supplier: http://www.mouser.com/ds/2/268/22090a-52174.pdf
footprint QFN-20-1EP_4x4mm_P0.5mm_EP2.5x2.5mm
pins: 1 OUT (power), 2 VPCC (in), 3 SEL (in), 4 PROG2 (in), 5 THERM (io), 6 ~{{PG}} (oc), 7 STAT2 (oc), 8 STAT1/~{{LBO}} (oc), 9 ~{{TE}} (in), 10 VSS (power), 11 VSS hidden, 12 PROG3 (io), 13 PROG1 (io), 14 VBAT (power), 15 VBAT hidden, 16 Vbat_SENSE (in), 17 CE (in), 18 IN (power), 19 IN hidden, 20 OUT hidden, 21 VSS hidden

## MCP73871-2CA
designator *  value MCP73871-2CA
ki_keywords: battery charger lithium; ki_description: Single cell, Li-Ion/Li-Po charge management controller, 4.20V, 6h safety timer; ki_fp_filters: QFN*4x4mm*P0.5mm*; Footprint: Package_DFN_QFN:QFN-20-1EP_4x4mm_P0.5mm_EP2.5x2.5mm; Supplier: http://www.mouser.com/ds/2/268/22090a-52174.pdf
footprint QFN-20-1EP_4x4mm_P0.5mm_EP2.5x2.5mm
pins: 1 OUT (power), 2 VPCC (in), 3 SEL (in), 4 PROG2 (in), 5 THERM (io), 6 ~{{PG}} (oc), 7 STAT2 (oc), 8 STAT1/~{{LBO}} (oc), 9 ~{{TE}} (in), 10 VSS (power), 11 VSS hidden, 12 PROG3 (io), 13 PROG1 (io), 14 VBAT (power), 15 VBAT hidden, 16 Vbat_SENSE (in), 17 CE (in), 18 IN (power), 19 IN hidden, 20 OUT hidden, 21 VSS hidden

## MCP73871-2CC
designator *  value MCP73871-2CC
ki_keywords: battery charger lithium; ki_description: Single cell, Li-Ion/Li-Po charge management controller, 4.20V, 6h safety timer, 3.1V LBO threshold; ki_fp_filters: QFN*4x4mm*P0.5mm*; Footprint: Package_DFN_QFN:QFN-20-1EP_4x4mm_P0.5mm_EP2.5x2.5mm; Supplier: http://www.mouser.com/ds/2/268/22090a-52174.pdf
footprint QFN-20-1EP_4x4mm_P0.5mm_EP2.5x2.5mm
pins: 1 OUT (power), 2 VPCC (in), 3 SEL (in), 4 PROG2 (in), 5 THERM (io), 6 ~{{PG}} (oc), 7 STAT2 (oc), 8 STAT1/~{{LBO}} (oc), 9 ~{{TE}} (in), 10 VSS (power), 11 VSS hidden, 12 PROG3 (io), 13 PROG1 (io), 14 VBAT (power), 15 VBAT hidden, 16 Vbat_SENSE (in), 17 CE (in), 18 IN (power), 19 IN hidden, 20 OUT hidden, 21 VSS hidden

## MCP73871-3CA
designator *  value MCP73871-3CA
ki_keywords: battery charger lithium; ki_description: Single cell, Li-Ion/Li-Po charge management controller, 4.35V, 6h safety timer; ki_fp_filters: QFN*4x4mm*P0.5mm*; Footprint: Package_DFN_QFN:QFN-20-1EP_4x4mm_P0.5mm_EP2.5x2.5mm; Supplier: http://www.mouser.com/ds/2/268/22090a-52174.pdf
footprint QFN-20-1EP_4x4mm_P0.5mm_EP2.5x2.5mm
pins: 1 OUT (power), 2 VPCC (in), 3 SEL (in), 4 PROG2 (in), 5 THERM (io), 6 ~{{PG}} (oc), 7 STAT2 (oc), 8 STAT1/~{{LBO}} (oc), 9 ~{{TE}} (in), 10 VSS (power), 11 VSS hidden, 12 PROG3 (io), 13 PROG1 (io), 14 VBAT (power), 15 VBAT hidden, 16 Vbat_SENSE (in), 17 CE (in), 18 IN (power), 19 IN hidden, 20 OUT hidden, 21 VSS hidden

## MCP73871-3CC
designator *  value MCP73871-3CC
ki_keywords: battery charger lithium; ki_description: Single cell, Li-Ion/Li-Po charge management controller, 4.35V, 6h safety timer, 3.1V LBO threshold; ki_fp_filters: QFN*4x4mm*P0.5mm*; Footprint: Package_DFN_QFN:QFN-20-1EP_4x4mm_P0.5mm_EP2.5x2.5mm; Supplier: http://www.mouser.com/ds/2/268/22090a-52174.pdf
footprint QFN-20-1EP_4x4mm_P0.5mm_EP2.5x2.5mm
pins: 1 OUT (power), 2 VPCC (in), 3 SEL (in), 4 PROG2 (in), 5 THERM (io), 6 ~{{PG}} (oc), 7 STAT2 (oc), 8 STAT1/~{{LBO}} (oc), 9 ~{{TE}} (in), 10 VSS (power), 11 VSS hidden, 12 PROG3 (io), 13 PROG1 (io), 14 VBAT (power), 15 VBAT hidden, 16 Vbat_SENSE (in), 17 CE (in), 18 IN (power), 19 IN hidden, 20 OUT hidden, 21 VSS hidden

## MCP73871-4CA
designator *  value MCP73871-4CA
ki_keywords: battery charger lithium; ki_description: Single cell, Li-Ion/Li-Po charge management controller, 4.40V, 6h safety timer; ki_fp_filters: QFN*4x4mm*P0.5mm*; Footprint: Package_DFN_QFN:QFN-20-1EP_4x4mm_P0.5mm_EP2.5x2.5mm; Supplier: http://www.mouser.com/ds/2/268/22090a-52174.pdf
footprint QFN-20-1EP_4x4mm_P0.5mm_EP2.5x2.5mm
pins: 1 OUT (power), 2 VPCC (in), 3 SEL (in), 4 PROG2 (in), 5 THERM (io), 6 ~{{PG}} (oc), 7 STAT2 (oc), 8 STAT1/~{{LBO}} (oc), 9 ~{{TE}} (in), 10 VSS (power), 11 VSS hidden, 12 PROG3 (io), 13 PROG1 (io), 14 VBAT (power), 15 VBAT hidden, 16 Vbat_SENSE (in), 17 CE (in), 18 IN (power), 19 IN hidden, 20 OUT hidden, 21 VSS hidden

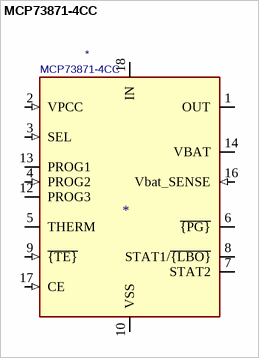
[diagram p4: symbol MCP73871-4CC]

## MCP73871-4CC
designator *  value MCP73871-4CC
ki_keywords: battery charger lithium; ki_description: Single cell, Li-Ion/Li-Po charge management controller, 4.40V, 6h safety timer, 3.1V LBO threshold; ki_fp_filters: QFN*4x4mm*P0.5mm*; Footprint: Package_DFN_QFN:QFN-20-1EP_4x4mm_P0.5mm_EP2.5x2.5mm; Supplier: http://www.mouser.com/ds/2/268/22090a-52174.pdf
footprint QFN-20-1EP_4x4mm_P0.5mm_EP2.5x2.5mm
pins: 1 OUT (power), 2 VPCC (in), 3 SEL (in), 4 PROG2 (in), 5 THERM (io), 6 ~{{PG}} (oc), 7 STAT2 (oc), 8 STAT1/~{{LBO}} (oc), 9 ~{{TE}} (in), 10 VSS (power), 11 VSS hidden, 12 PROG3 (io), 13 PROG1 (io), 14 VBAT (power), 15 VBAT hidden, 16 Vbat_SENSE (in), 17 CE (in), 18 IN (power), 19 IN hidden, 20 OUT hidden, 21 VSS hidden